# EAGLE library part ATMEGA328P (library MyLibrary)
Atmel 32-pin 8-bit AVR microcontroller
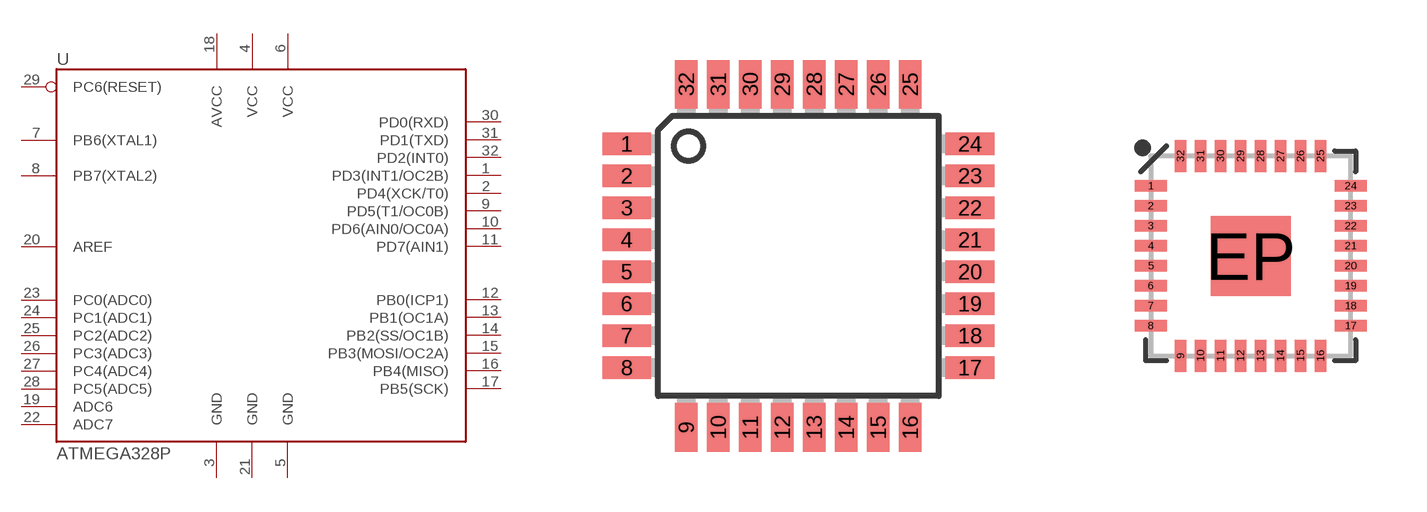
[diagram p7: symbol with the pads of TQFP32; footprints TQFP32, QFN32]

Designator prefix U

## ATMEGA328P-AU  [TQFP32]
1  PD3(INT1/OC2B)
2  PD4(XCK/T0)
3  GND
4  VCC
5  GND
6  VCC
7  PB6(XTAL1)
8  PB7(XTAL2)
9  PD5(T1/OC0B)
10  PD6(AIN0/OC0A)
11  PD7(AIN1)
12  PB0(ICP1)
13  PB1(OC1A)
14  PB2(SS/OC1B)
15  PB3(MOSI/OC2A)
16  PB4(MISO)
17  PB5(SCK)
18  AVCC
19  ADC6
20  AREF
21  GND
22  ADC7
23  PC0(ADC0)
24  PC1(ADC1)
25  PC2(ADC2)
26  PC3(ADC3)
27  PC4(ADC4)
28  PC5(ADC5)
29  PC6(RESET)
30  PD0(RXD)
31  PD1(TXD)
32  PD2(INT0)

## ATMEGA328P-QFN32  [QFN32]
1  PD3(INT1/OC2B)
2  PD4(XCK/T0)
3  GND
4  VCC
5  GND
6  VCC
7  PB6(XTAL1)
8  PB7(XTAL2)
9  PD5(T1/OC0B)
10  PD6(AIN0/OC0A)
11  PD7(AIN1)
12  PB0(ICP1)
13  PB1(OC1A)
14  PB2(SS/OC1B)
15  PB3(MOSI/OC2A)
16  PB4(MISO)
17  PB5(SCK)
18  AVCC
19  ADC6
20  AREF
21  GND
22  ADC7
23  PC0(ADC0)
24  PC1(ADC1)
25  PC2(ADC2)
26  PC3(ADC3)
27  PC4(ADC4)
28  PC5(ADC5)
29  PC6(RESET)
30  PD0(RXD)
31  PD1(TXD)
32  PD2(INT0)
EP  GND

## Footprint TQFP32 (pad centres in mm)
32-pin Thin Plastic Quad Flat Package
smd 1.219 x 0.559: 1 -4.293,2.8; 2 -4.293,2; 3 -4.293,1.2; 4 -4.293,0.4; 5 -4.293,-0.4; 6 -4.293,-1.2; 7 -4.293,-2; 8 -4.293,-2.8; 17 4.293,-2.8; 18 4.293,-2; 19 4.293,-1.2; 20 4.293,-0.4; 21 4.293,0.4; 22 4.293,1.2; 23 4.293,2; 24 4.293,2.8
smd 0.559 x 1.219: 9 -2.8,-4.293; 10 -2,-4.293; 11 -1.2,-4.293; 12 -0.4,-4.293; 13 0.4,-4.293; 14 1.2,-4.293; 15 2,-4.293; 16 2.8,-4.293; 25 2.8,4.293; 26 2,4.293; 27 1.2,4.293; 28 0.4,4.293; 29 -0.4,4.293; 30 -1.2,4.293; 31 -2,4.293; 32 -2.8,4.293

## Footprint QFN32 (pad centres in mm)
32-pin QFN 5.0 x 5.0 mm, 0.5mm pitch The central pad should be 3.15x3.15, but I modified it for more space to route Datasheet <http://espressif.com/sites/default/files/documentation/0a-esp8266_datasheet_en_v4.4.pdf>
smd 0.8 x 0.285: 1 -2.5,1.75; 2 -2.5,1.25; 3 -2.5,0.75; 4 -2.5,0.25; 5 -2.5,-0.25; 6 -2.5,-0.75; 7 -2.5,-1.25; 8 -2.5,-1.75; 17 2.5,-1.75; 18 2.5,-1.25; 19 2.5,-0.75; 20 2.5,-0.25; 21 2.5,0.25; 22 2.5,0.75; 23 2.5,1.25; 24 2.5,1.75
smd 0.285 x 0.8: 9 -1.75,-2.5; 10 -1.25,-2.5; 11 -0.75,-2.5; 12 -0.25,-2.5; 13 0.25,-2.5; 14 0.75,-2.5; 15 1.25,-2.5; 16 1.75,-2.5; 25 1.75,2.5; 26 1.25,2.5; 27 0.75,2.5; 28 0.25,2.5; 29 -0.25,2.5; 30 -0.75,2.5; 31 -1.25,2.5; 32 -1.75,2.5
smd 2 x 2: EP 0,0